# Altium footprint library WH1602A.PcbLib: 1 footprints
Each footprint in its own frame and in the unit in brackets; x right, y up, seen from the top. Pads: shape width x height; smd on the part's side, far side on the other; paste and mask are expansions set on the pad; w line width, h text height; cw(c..) or ccw(c..) is an arc to the next point about the centre after c.
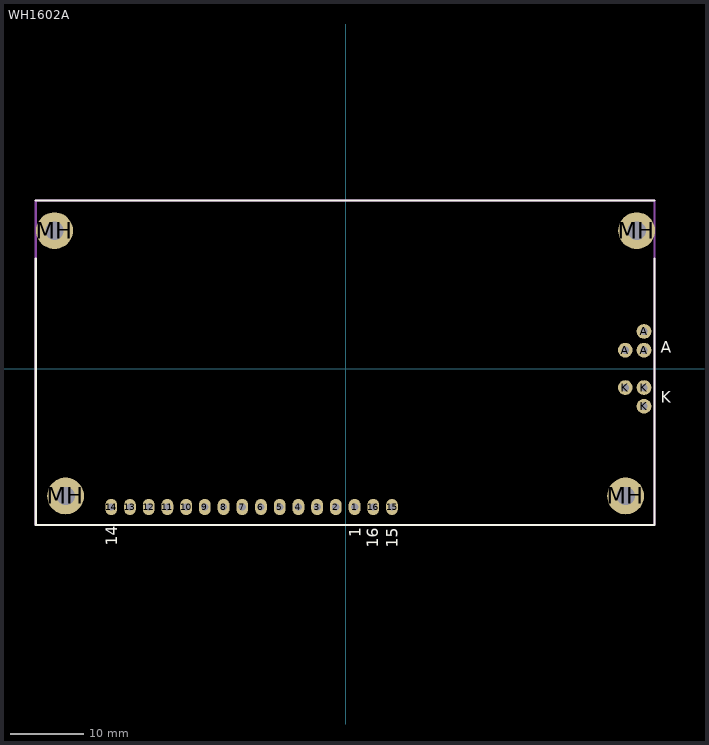
[diagram p0: the footprint, top view; thin cyan lines are the x and y axes]

## WH1602A [mm]
pads (27):
  oval 1.6x2.2 hole 1: 1(1.22,-18.75) 2(-1.32,-18.75) 3(-3.86,-18.75) 4(-6.4,-18.75) 5(-8.94,-18.75) 6(-11.48,-18.75) 7(-14.02,-18.75) 8(-16.56,-18.75) 9(-19.1,-18.75) 10(-21.64,-18.75) 11(-24.18,-18.75) 12(-26.72,-18.75) 13(-29.26,-18.75) 14(-31.8,-18.75) 14(-31.8,-18.75) 15(6.3,-18.75) 16(3.76,-18.75)
  round 2 hole 1: A(37.96,2.54) A(40.5,2.54) A(40.5,5.08) K(37.96,-2.54) K(40.5,-5.08) K(40.5,-2.54)
  round 5 hole 2.5: MH(-39.5,18.75) MH(-38,-17.25) MH(38,-17.25) MH(39.5,18.75)
Top Overlay:
  lines w0.3: -42.037,14.986 -42.037,-21.209 41.91,-21.209 41.91,14.986 ; -42.037,22.86 41.91,22.86
  text "K" at 42.799,-4.572 h1.52
  text "A" at 42.799,2.159 h1.52
  text "15" at 7.112,-24.257 h1.52
  text "16" at 4.445,-24.257 h1.52
  text "1" at 2.032,-22.86 h1.52
  text "14" at -30.988,-24.003 h1.52
Mechanical 13:
  lines w0.3: -42.037,-21.209 41.91,-21.209 41.91,22.86 -42.037,22.86 -42.037,-21.209
  text ".Designator" at -2.6,-3.23 h2.5
3D body: height 17.6, standoff 8, extent -42,-21.25 42,22.75